# Altium footprint library syhaunguyen.PcbLib: 329 footprints (part 7 of 21)
Each footprint in its own frame and in the unit in brackets; x right, y up, seen from the top. Pads: shape width x height; smd on the part's side, far side on the other; paste and mask are expansions set on the pad; w line width, h text height; cw(c..) or ccw(c..) is an arc to the next point about the centre after c.
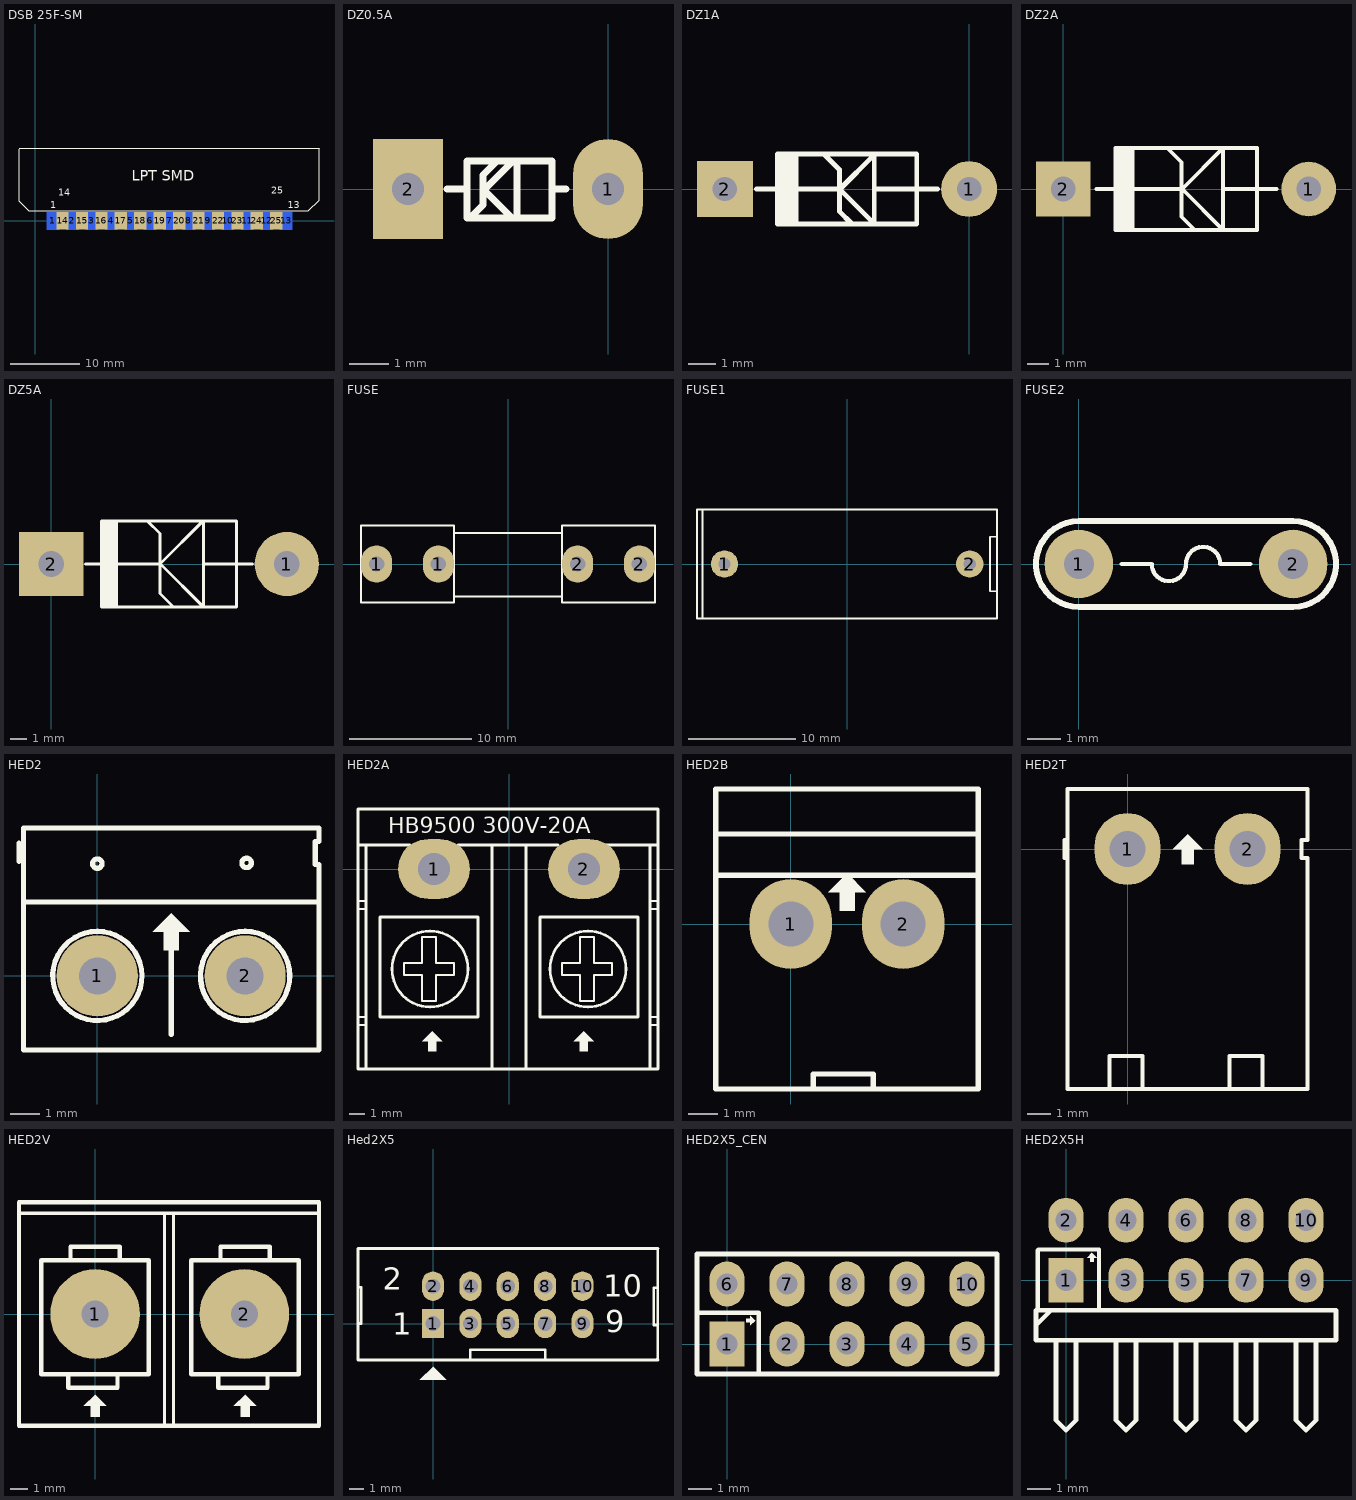
[diagram p6: the footprints below, top view; thin cyan lines are the x and y axes]

## DSB 25F-SM [mil] "25 pin, connector LPT"
height 200
pads (27):
  rect 70x100 smd far side: 1(100,0) 2(211,0) 3(322,0) 4(433,0) 5(544,0) 6(655,0) 7(766,0) 8(877,0) 9(988,0) 10(1099,0) 11(1210,0) 12(1321,0) 13(1432,0)
  rect 70x100 smd: 14(155,0) 15(266,0) 16(377,0) 17(488,0) 18(599,0) 19(710,0) 20(821,0) 21(932,0) 22(1043,0) 23(1154,0) 24(1265,0) 25(1376,0)
  round 1 all layers, no hole: 26(760,80) 27(870,80)
Top Overlay:
  lines w7: -94,112 -94,410 -89,415 1551,415 1618,415 1620,413 1620,119 1558,57 -39,57 -94,112
  text "LPT SMD" at 550,230 h60
  text "25" at 1346,155 h40
  text "14" at 131,143 h40
  text "1" at 85,73 h40
  text "13" at 1441,73 h40

## DZ0.5A [mil] "Diode Zenner, W 80mil, L 300mil"
height 80
pads (2):
  oval 70x100 hole 32: 1(0,0)
  rect 70x100 hole 32: 2(-200,0)
Top Overlay:
  lines w7: -161,0 -141,0 ; -138,-29 -125,-16 -125,14 -111.5,27.5 ; -125,-2 -125,0 ; -95,28 -123,0 -125,0 ; -91,28 -91,-27 -89,-29 -93,-29 -96,-29 -125,0 ; -56,0 -42,0 ; -141,-29 -56,-29 -56,28 -141,28 -141,-29

## DZ1A [mil] "Diode 1A, W 100mil, L 350mil"
height 100
pads (2):
  round 80 hole 35: 1(0,0)
  rect 80x80 hole 35: 2(-350,0)
Top Overlay:
  region: -275,50 -275,-50 -245,-50 -245,50
  lines w7: -305,0 -275,0 ; -275,-16 -275,0 ; -275,21 -275,0 ; -255,0 -190,0 ; -208,50 -186,28 -186,-32 -168.5,-49.5 ; -185.5,-0.5 -136,-50 -136,50 -136,49 -185,0 -185,-1 ; -135,0 -75,0 -45,0 ; -275,0 -275,-50 -75,-50 -75,50 -275,50 -275,0
3D body: height 120.61, standoff -50, extent -346,-65 -15,40

## DZ2A [mil] "Diode 2A, W 150mil, L 450mil"
height 100
pads (2):
  round 100 hole 45: 1(450,0)
  rect 100x100 hole 45: 2(0,0)
Top Overlay:
  region: 95,75 95,-75 130,-75 130,75
  lines w7: 61,0 96,0 ; 96,-31 96,0 ; 96,32 96,0 ; 115,0 215,0 ; 194,72 217,49 217,-51 239,-73 ; 218,1 218,0 ; 295,0 360,0 ; 355,0 391,0 ; 218,0 293,-75 293,75 218,0 ; 96,-75 355,-75 355,75 96,75 96,-75
3D body: height 100.5, standoff -100, extent -5,-46 425,55

## DZ5A [mil] "Diode 5A, W 200mil, L 550mil"
height 150
pads (2):
  round 150 hole 60: 1(550,0)
  rect 150x150 hole 60: 2(0,0)
Top Overlay:
  region: 115,100 115,-100 155,-100 155,100
  lines w7: 80,0 118,0 ; 118,-44 118,0 ; 118,46 118,0 ; 150,0 255,0 355,-100 355,100 354,100 254,0 ; 225,100 254,71 ; 254,-5 254,6 ; 254,70 254,-69 283,-98 ; 355,0 435,0 ; 432,0 470,0 ; 118,-100 432,-100 432,100 118,100 118,-100

## FUSE [mil] "De Fuse"
pads (4):
  oval 100x120 hole 50: 1(-425,0) 1(-225,0) 2(225,0) 2(425,0)
Top Overlay:
  lines w7: -175,-105 175,-105 ; -175,100 175,100 ; -475,-125 -175,-125 -175,125 -475,125 -475,-125 ; 175,-125 175,125 475,125 475,-125 175,-125
3D body: height 377.88, standoff -129.94, extent -448,-117 -208,126.71
3D body: height 370.39, standoff 169.61, extent -384.8,-98 390.8,102.79
3D body: height 377.88, standoff -129.94, extent 219,-116.71 459,127

## FUSE1 [mil] "De Fuse Box"
pads (2):
  round 100 hole 45: 1(-450,0) 2(450,0)
Top Overlay:
  lines w7: -531,-199 -531,200 ; 549,-100 525,-100 524,-99 524,100 550,100 ; -551,-200 -551,200 550,200 550,-200 -551,-200

## FUSE2 [mil] "Fuse"
pads (2):
  round 80 hole 35: 1(0,0) 2(250,0)
Top Overlay:
  lines w5: 50,0 85,0 ccw(c105,0) 125,0 cw(c145,0) 165,0 200,0
  lines w7: 0,-50 cw(c0,0) 0,50 250,50 cw(c250,0) 250,-50 0,-50

## HED2 [mil] "Header 2, 2 pin, hight 300mil, Pin to Pin 200, Colour Green"
height 300
pads (2):
  round 110 hole 50: 1(0,0) 2(200,0)
Top Overlay:
  circle w7: c202,153 r6.4
  circle w7: c0,152 r6.4
  region: 100,85 75,60 90,60 90,35 110,35 110,60 125,60
  lines w7: -106,155 -106,180 ; -98,100 299,100 ; 38.83,46.23 ccw(c0,0) 40.11,45.12 ; 100,-79 100,72 ; 238.74,46.3 ccw(c200,0) 240.11,45.12 ; -100,-100 -100,50 -100,200 300,200 300,182 295,182 295,151 300,151 300,-100 -100,-100
3D body: height 393.7, standoff -157.48, extent -91.85,-140 301.85,155.28

## HED2A [mil] "Header 2: 300V-20A, 2 pin, hight 300mil, Pin to Pin 400, Colour Green"
height 300
pads (2):
  oval 180x150 hole 80: 1(-187.5,0) 2(187.5,0)
Top Overlay:
  circle w7: c197.5,-250 r95
  circle w7: c-197.5,-250 r95
  region: 187.5,-405 162.5,-430 177.5,-430 177.5,-455 197.5,-455 197.5,-430 212.5,-430
  region: -192.5,-405 -217.5,-430 -202.5,-430 -202.5,-455 -182.5,-455 -182.5,-430 -167.5,-430
  lines w5: -375,-390 -360,-390 ; -375,-370 -360,-370 ; -375,-100 -360,-100 ; -375,-80 -360,-80 ; 355,-390 370,-390 ; 355,-370 370,-370 ; 355,-100 370,-100 ; 355,-80 370,-80 ; -262.5,-265 -217.5,-265 -217.5,-330 -182.5,-330 -182.5,-265 -137.5,-265 -137.5,-235 -182.5,-235 -182.5,-170 -217.5,-170 -217.5,-235 -262.5,-235 -262.5,-265 ; 132.5,-265 132.5,-235 177.5,-235 177.5,-170 212.5,-170 212.5,-235 257.5,-235 257.5,-265 212.5,-265 212.5,-330 177.5,-330 177.5,-265 132.5,-265
  lines w7: -377.5,60 -247.5,60 ; -357.5,-495 -357.5,60 ; -127.5,60 122.5,60 ; -42.5,-495 -42.5,60 ; 42.5,-495 42.5,60 ; 242.5,60 372.5,60 ; 352.5,-495 352.5,60 ; -377.5,-500 372.5,-500 372.5,150 -377.5,150 -377.5,-500 ; -322.5,-370 -322.5,-120 -77.5,-120 -77.5,-370 -322.5,-370 ; 77.5,-370 322.5,-370 322.5,-120 77.5,-120 77.5,-370
  text "HB9500 300V-20A" at -302.5,90 h40

## HED2B [mil] "Header 2, 2 pin, hight 300mil, Pin to Pin 150, Colour White"
height 300
pads (2):
  oval 110x120 hole 60: 1(0,0) 2(150,0)
Top Overlay:
  region: 75,67.5 50,42.5 65,42.5 65,17.5 85,17.5 85,42.5 100,42.5
  lines w7: -100,65 250,65 ; -100,120 250,120 ; 30,-220 30,-200 110,-200 110,-220 ; -100,-220 -100,180 250,180 250,-220 -100,-220

## HED2T [mil] "Header 2, 2 pin, hight 300mil, Pin to Pin 200, Colour Green"
height 300
pads (2):
  oval 110x120 hole 60: 1(0,0) 2(200,0)
Top Overlay:
  region: 100,25 75,0 90,0 90,-25 110,-25 110,0 125,0
  lines w7: -105,-15 -105,15 ; -100,100 -100,-400 300,-400 300,-15 290,-15 290,15 300,15 300,100 -98,100 ; -30,-400 -30,-345 25,-345 25,-400 ; 170,-400 170,-345 225,-345 225,-400
3D body: height 333.51, standoff -157.48, extent -96.7,-399.22 297,73.22

## HED2V [mil] "Header 6"
height 300
pads (2):
  round 200 hole 60: 1(0,0) 2(333.33,0)
Top Overlay:
  region: 335,-180 310,-205 325,-205 325,-230 345,-230 345,-205 360,-205
  region: 0,-180 -25,-205 -10,-205 -10,-230 10,-230 10,-205 25,-205
  lines w7: -170,225 499,225 ; 155,-250 155,225 ; 175,-250 175,225
  lines w10: -60,-135 -60,-165 50,-165 50,-135 ; -55,120 -55,150 55,150 55,120 ; 275,-135 275,-165 385,-165 385,-135 ; 280,120 280,150 390,150 390,120 ; -170,-250 -170,250 500,250 500,-250 -170,-250 ; -120,-135 120,-135 120,120 -120,120 -120,-135 ; 215,-135 215,120 455,120 455,-135 215,-135

## Hed2X5 [mm] "Header 10x2,20 pin, connecter"
height 7.62
pads (10):
  rect 1.5x2 hole 1: 1(0,0)
  oval 1.5x2 hole 1: 2(0,2.54) 3(2.54,0) 4(2.54,2.54) 5(5.08,0) 6(5.08,2.54) 7(7.62,0) 8(7.62,2.54) 9(10.16,0) 10(10.16,2.54)
Top Overlay:
  region: 0,-2.921 -0.889,-3.81 0.889,-3.81
  lines w0.178: -5.1,-0.025 -5.075,0 -4.875,0 -4.875,2.475 -5.1,2.475 ; 2.525,-2.438 2.525,-1.778 7.625,-1.778 7.625,-2.464 ; 15.203,-2.45 15.265,-2.388 ; 15.265,-0.102 15.011,-0.102 15.011,2.423 15.265,2.423 ; 15.291,-2.475 -5.1,-2.475 -5.1,5.1 ; -5.1,5.1 15.291,5.1 -5.1,5.1 ; 15.265,-2.388 15.265,5.105 15.265,-2.388
  text "1" at -2.775,-0.75 h1.52
  text "2" at -3.429,2.286 h1.52
  text "9" at 11.709,-0.61 h1.52
  text "10" at 11.582,1.803 h1.52

## HED2X5_CEN [mm] "Connector; Header; 5x2 Position"
pads (10):
  rect 1.5x1.9 hole 0.9: 1(0,0)
  oval 1.5x1.9 hole 0.9: 2(2.54,0) 3(5.08,0) 4(7.62,0) 5(10.16,0) 6(0,2.54) 7(2.54,2.54) 8(5.08,2.54) 9(7.62,2.54) 10(10.16,2.54)
Top Overlay:
  region: 0.813,1.067 0.991,1.067 0.991,1.194 1.194,0.991 0.991,0.787 0.991,0.914 0.813,0.914
  lines w0.178: -1.219,1.321 1.346,1.321 1.346,1.194 1.346,-1.194
  lines w0.2: -1.27,-1.27 11.43,-1.27 11.43,3.81 -1.27,3.81 -1.27,-1.27
3D body: height 5.02, standoff -2.98, extent -1.245,-10.024 11.455,2.856

## HED2X5H [mm] "Connector; Header; 5x2 Position; Right Angle"
pads (10):
  rect 1.5x1.9 hole 0.9: 1(0,0)
  oval 1.5x1.9 hole 0.9: 2(0,2.54) 3(2.54,0) 4(2.54,2.54) 5(5.08,0) 6(5.08,2.54) 7(7.62,0) 8(7.62,2.54) 9(10.16,0) 10(10.16,2.54)
Top Overlay:
  region: 1.016,0.775 1.016,0.953 0.889,0.953 1.092,1.156 1.295,0.953 1.168,0.953 1.168,0.775
  lines w0.178: -1.194,-1.295 -1.194,1.27 ; -1.168,1.295 1.397,1.295 1.397,1.168 1.397,-1.219
  lines w0.2: -1.27,-1.905 -0.635,-1.27 ; -0.423,-2.54 -0.423,-5.927 0,-6.35 0.423,-5.927 0.423,-2.54 ; 2.117,-2.54 2.117,-5.927 2.54,-6.35 2.963,-5.927 2.963,-2.54 ; 4.657,-2.54 4.657,-5.927 5.08,-6.35 5.503,-5.927 5.503,-2.54 ; 7.197,-2.54 7.197,-5.927 7.62,-6.35 8.043,-5.927 8.043,-2.54 ; 9.737,-2.54 9.737,-5.927 10.16,-6.35 10.583,-5.927 10.583,-2.54 ; -1.27,-2.54 11.43,-2.54 11.43,-1.27 -1.27,-1.27 -1.27,-2.54